# EAGLE library part RP2040-ZERO (library RP2040-zero)
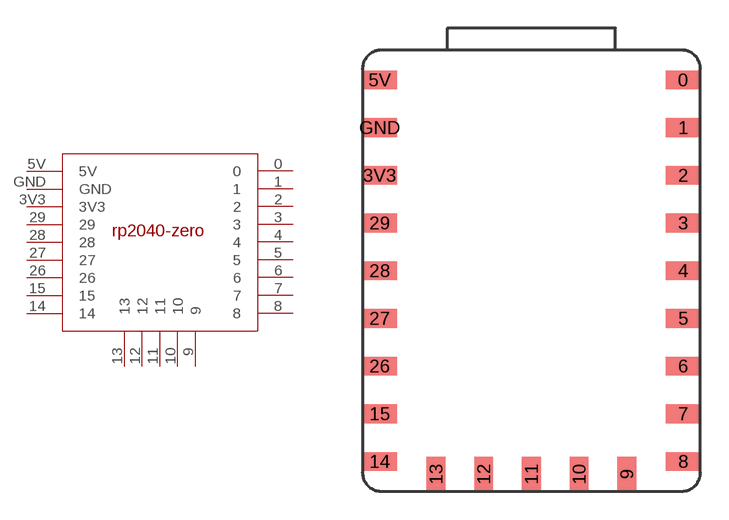
[diagram p1: symbol with the pads of RP2040-ZERO; footprint RP2040-ZERO]

Designator prefix -

## RP2040-ZERO  [RP2040-ZERO]
0  0
1  1
2  2
3  3
3V3  3V3
4  4
5  5
5V  5V
6  6
7  7
8  8
9  9
10  10
11  11
12  12
13  13
14  14
15  15
26  26
27  27
28  28
29  29
GND  GND

## Footprint RP2040-ZERO (pad centres in mm)
smd 1.838 x 1: 0 8.081,10.16; 1 8.081,7.62; 2 8.081,5.08; 3 8.081,2.54; 3V3 -8.081,5.08; 4 8.081,0; 5 8.081,-2.54; 5V -8.081,10.16; 6 8.081,-5.08; 7 8.081,-7.62; 8 8.081,-10.16; 14 -8.081,-10.16; 15 -8.081,-7.62; 26 -8.081,-5.08; 27 -8.081,-2.54; 28 -8.081,0; 29 -8.081,2.54; GND -8.081,7.62
smd 1 x 1.838: 9 5.08,-10.831; 10 2.54,-10.831; 11 0,-10.831; 12 -2.54,-10.831; 13 -5.08,-10.831